# Altium schematic symbol library 2x5.08_Terminal_Block.SchLib: 1 symbol
Pins are listed as number, name and electrical type; pins without a type are passive.

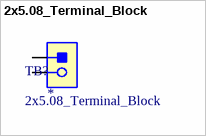
[diagram p0: symbol 2x5.08_Terminal_Block]

## 2x5.08_Terminal_Block
designator TB?
LCSC: *
footprint 2x5.08_Terminal_Block
pins: 1, 2